# Altium footprint library National Semiconductor Footprints.PcbLib: 194 footprints (part 8 of 13)
Each footprint in its own frame and in the unit in brackets; x right, y up, seen from the top. Pads: shape width x height; smd on the part's side, far side on the other; paste and mask are expansions set on the pad; w line width, h text height; cw(c..) or ccw(c..) is an arc to the next point about the centre after c.
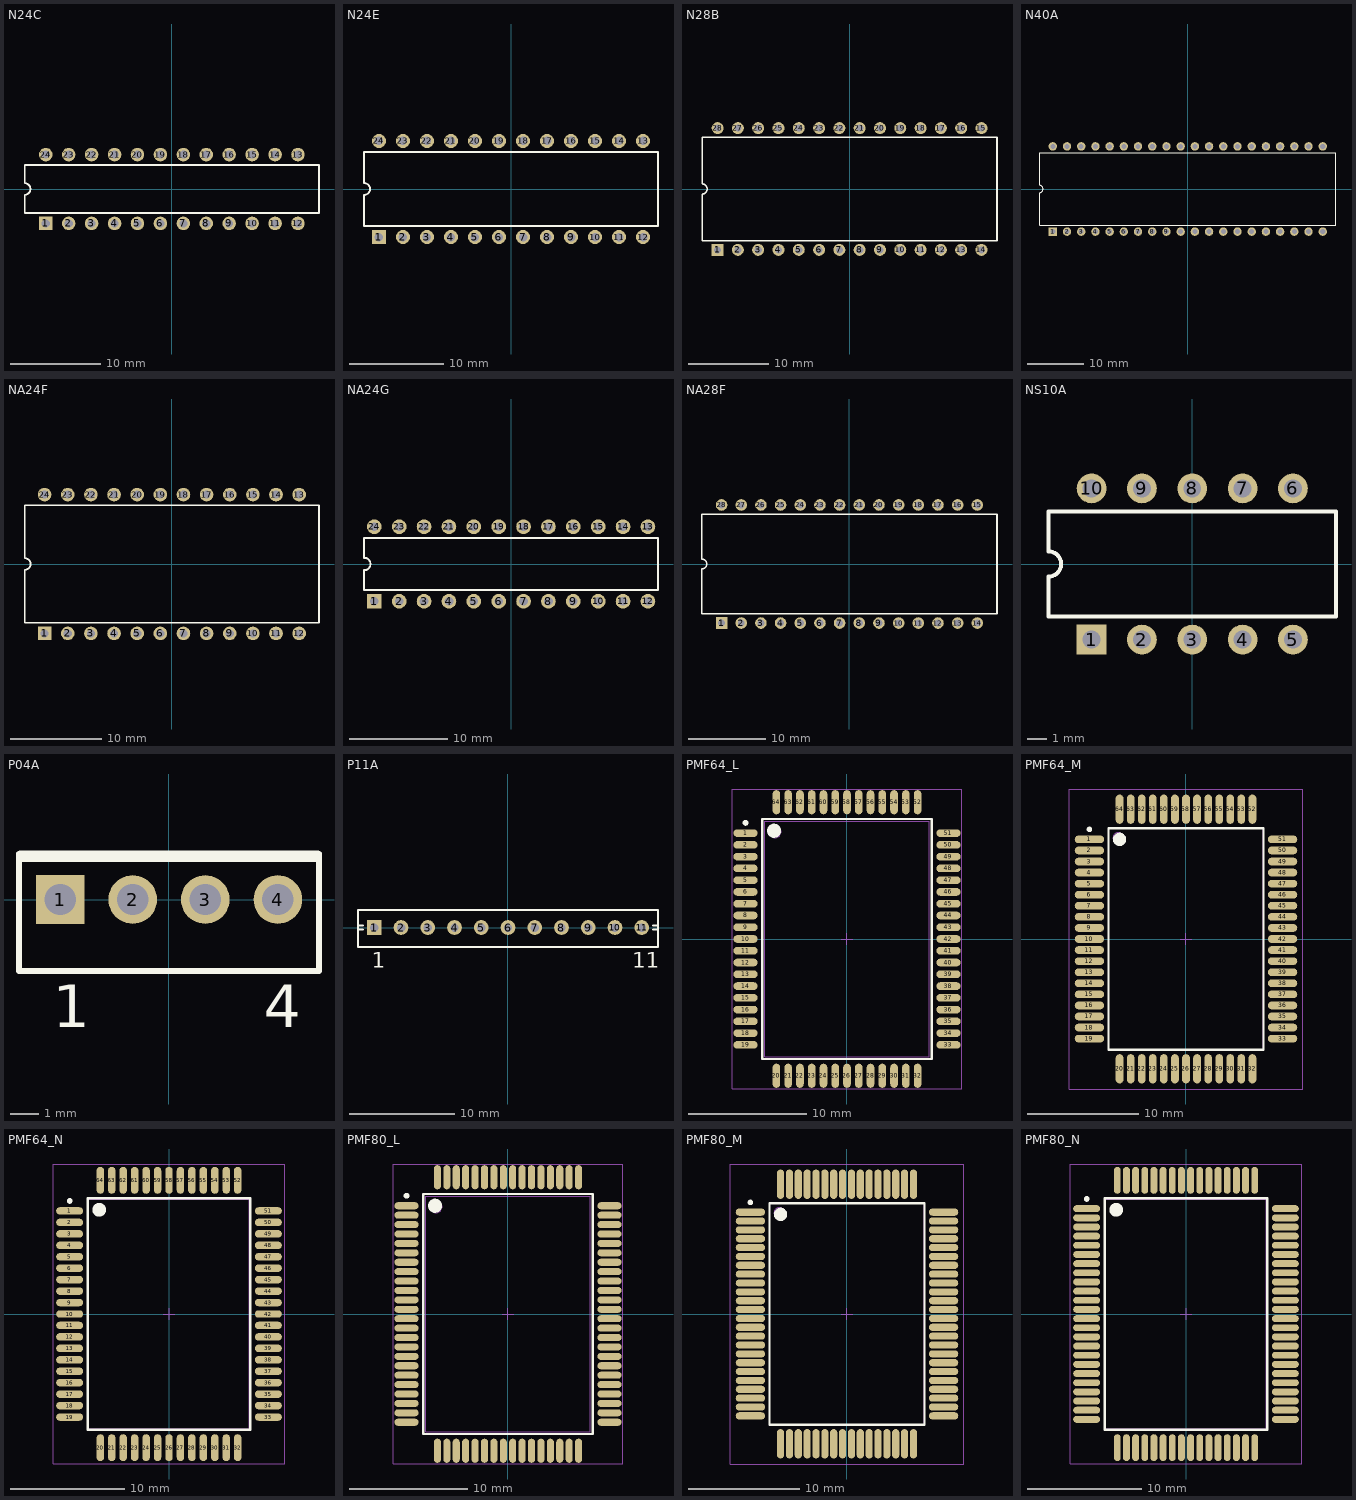
[diagram p7: the footprints below, top view; thin cyan lines are the x and y axes]

## N24C [mm] "DIP; 24 Leads; Row Spacing 7.62 mm; Pitch 2.54 mm"
height 5.08
pads (24):
  rect 1.5x1.5 hole 0.9: 1(-13.97,-3.81)
  round 1.5 hole 0.9: 2(-11.43,-3.81) 3(-8.89,-3.81) 4(-6.35,-3.81) 5(-3.81,-3.81) 6(-1.27,-3.81) 7(1.27,-3.81) 8(3.81,-3.81) 9(6.35,-3.81) 10(8.89,-3.81) 11(11.43,-3.81) 12(13.97,-3.81) 13(13.97,3.81) 14(11.43,3.81) 15(8.89,3.81) 16(6.35,3.81) 17(3.81,3.81) 18(1.27,3.81) 19(-1.27,3.81) 20(-3.81,3.81) 21(-6.35,3.81) 22(-8.89,3.81) 23(-11.43,3.81) 24(-13.97,3.81)
Top Overlay:
  lines w0.2: -16.3,-2.65 16.3,-2.65 16.3,2.65 -16.3,2.65 -16.3,0.635 cw(c-16.3,0) -16.3,-0.635 -16.3,-2.65

## N24E [mm] "DIP; 24 Leads; Row Spacing 10.16 mm; Pitch 2.54 mm"
height 5.08
pads (24):
  rect 1.5x1.5 hole 0.9: 1(-13.97,-5.08)
  round 1.5 hole 0.9: 2(-11.43,-5.08) 3(-8.89,-5.08) 4(-6.35,-5.08) 5(-3.81,-5.08) 6(-1.27,-5.08) 7(1.27,-5.08) 8(3.81,-5.08) 9(6.35,-5.08) 10(8.89,-5.08) 11(11.43,-5.08) 12(13.97,-5.08) 13(13.97,5.08) 14(11.43,5.08) 15(8.89,5.08) 16(6.35,5.08) 17(3.81,5.08) 18(1.27,5.08) 19(-1.27,5.08) 20(-3.81,5.08) 21(-6.35,5.08) 22(-8.89,5.08) 23(-11.43,5.08) 24(-13.97,5.08)
Top Overlay:
  lines w0.2: -15.55,-3.9 15.55,-3.9 15.55,3.9 -15.55,3.9 -15.55,0.635 cw(c-15.55,0) -15.55,-0.635 -15.55,-3.9

## N28B [mm] "DIP; 28 Leads; Row Spacing 15.24 mm; Pitch 2.54 mm"
height 5.34
pads (28):
  rect 1.5x1.5 hole 0.9: 1(-16.51,-7.62)
  round 1.5 hole 0.9: 2(-13.97,-7.62) 3(-11.43,-7.62) 4(-8.89,-7.62) 5(-6.35,-7.62) 6(-3.81,-7.62) 7(-1.27,-7.62) 8(1.27,-7.62) 9(3.81,-7.62) 10(6.35,-7.62) 11(8.89,-7.62) 12(11.43,-7.62) 13(13.97,-7.62) 14(16.51,-7.62) 15(16.51,7.62) 16(13.97,7.62) 17(11.43,7.62) 18(8.89,7.62) 19(6.35,7.62) 20(3.81,7.62) 21(1.27,7.62) 22(-1.27,7.62) 23(-3.81,7.62) 24(-6.35,7.62) 25(-8.89,7.62) 26(-11.43,7.62) 27(-13.97,7.62) 28(-16.51,7.62)
Top Overlay:
  lines w0.2: -18.45,-6.45 -18.45,-0.635 ccw(c-18.45,0) -18.45,0.635 -18.45,6.45 18.45,6.45 18.45,-6.45 -18.45,-6.45

## N40A [mm] "DIP; 40 Leads; Row Spacing 15.24 mm; Pitch 2.54 mm"
height 5.34
pads (40):
  rect 1.5x1.5 hole 0.9: 1(-24.13,-7.62)
  round 1.5 hole 0.9: 2(-21.59,-7.62) 3(-19.05,-7.62) 4(-16.51,-7.62) 5(-13.97,-7.62) 6(-11.43,-7.62) 7(-8.89,-7.62) 8(-6.35,-7.62) 9(-3.81,-7.62) 10(-1.27,-7.62) 11(1.27,-7.62) 12(3.81,-7.62) 13(6.35,-7.62) 14(8.89,-7.62) 15(11.43,-7.62) 16(13.97,-7.62) 17(16.51,-7.62) 18(19.05,-7.62) 19(21.59,-7.62) 20(24.13,-7.62) 21(24.13,7.62) 22(21.59,7.62) 23(19.05,7.62) 24(16.51,7.62) 25(13.97,7.62) 26(11.43,7.62) 27(8.89,7.62) 28(6.35,7.62) 29(3.81,7.62) 30(1.27,7.62) 31(-1.27,7.62) 32(-3.81,7.62) 33(-6.35,7.62) 34(-8.89,7.62) 35(-11.43,7.62) 36(-13.97,7.62) 37(-16.51,7.62) 38(-19.05,7.62) 39(-21.59,7.62) 40(-24.13,7.62)
Top Overlay:
  lines w0.2: -26.5,-6.45 26.5,-6.45 26.5,6.45 -26.5,6.45 -26.5,0.635 cw(c-26.5,0) -26.5,-0.635 -26.5,-6.45

## NA24F [mm] "DIP; 24 Leads; Row Spacing 15.24 mm; Pitch 2.54 mm"
height 7.24
pads (24):
  rect 1.5x1.5 hole 0.9: 1(-13.97,-7.62)
  round 1.5 hole 0.9: 2(-11.43,-7.62) 3(-8.89,-7.62) 4(-6.35,-7.62) 5(-3.81,-7.62) 6(-1.27,-7.62) 7(1.27,-7.62) 8(3.81,-7.62) 9(6.35,-7.62) 10(8.89,-7.62) 11(11.43,-7.62) 12(13.97,-7.62) 13(13.97,7.62) 14(11.43,7.62) 15(8.89,7.62) 16(6.35,7.62) 17(3.81,7.62) 18(1.27,7.62) 19(-1.27,7.62) 20(-3.81,7.62) 21(-6.35,7.62) 22(-8.89,7.62) 23(-11.43,7.62) 24(-13.97,7.62)
Top Overlay:
  lines w0.2: -16.15,-6.45 -16.15,-0.635 ccw(c-16.15,0) -16.15,0.635 -16.15,6.45 16.15,6.45 16.15,-6.45 -16.15,-6.45

## NA24G [mm] "DIP; 24 Leads; Row Spacing 7.62 mm; Pitch 2.54 mm"
height 4.58
pads (24):
  rect 1.5x1.5 hole 0.9: 1(-13.97,-3.81)
  round 1.5 hole 0.9: 2(-11.43,-3.81) 3(-8.89,-3.81) 4(-6.35,-3.81) 5(-3.81,-3.81) 6(-1.27,-3.81) 7(1.27,-3.81) 8(3.81,-3.81) 9(6.35,-3.81) 10(8.89,-3.81) 11(11.43,-3.81) 12(13.97,-3.81) 13(13.97,3.81) 14(11.43,3.81) 15(8.89,3.81) 16(6.35,3.81) 17(3.81,3.81) 18(1.27,3.81) 19(-1.27,3.81) 20(-3.81,3.81) 21(-6.35,3.81) 22(-8.89,3.81) 23(-11.43,3.81) 24(-13.97,3.81)
Top Overlay:
  lines w0.2: -15,-2.65 15,-2.65 15,2.65 -15,2.65 -15,0.635 cw(c-15,0) -15,-0.635 -15,-2.65

## NA28F [mm] "DIP; 28 Leads; Row Spacing 15.24 mm; Pitch 2.54 mm"
height 5.33
pads (28):
  rect 1.5x1.5 hole 0.9: 1(-16.51,-7.62)
  round 1.5 hole 0.9: 2(-13.97,-7.62) 3(-11.43,-7.62) 4(-8.89,-7.62) 5(-6.35,-7.62) 6(-3.81,-7.62) 7(-1.27,-7.62) 8(1.27,-7.62) 9(3.81,-7.62) 10(6.35,-7.62) 11(8.89,-7.62) 12(11.43,-7.62) 13(13.97,-7.62) 14(16.51,-7.62) 15(16.51,7.62) 16(13.97,7.62) 17(11.43,7.62) 18(8.89,7.62) 19(6.35,7.62) 20(3.81,7.62) 21(1.27,7.62) 22(-1.27,7.62) 23(-3.81,7.62) 24(-6.35,7.62) 25(-8.89,7.62) 26(-11.43,7.62) 27(-13.97,7.62) 28(-16.51,7.62)
Top Overlay:
  lines w0.2: -19.05,-6.45 19.05,-6.45 19.05,6.45 -19.05,6.45 -19.05,0.635 cw(c-19.05,0) -19.05,-0.635 -19.05,-6.45

## NS10A [mm] "DIP; 10 Leads; Row Spacing 7.62 mm; Pitch 2.54 mm"
height 5.08
pads (10):
  rect 1.5x1.5 hole 0.9: 1(-5.08,-3.81)
  round 1.5 hole 0.9: 2(-2.54,-3.81) 3(0,-3.81) 4(2.54,-3.81) 5(5.08,-3.81) 6(5.08,3.81) 7(2.54,3.81) 8(0,3.81) 9(-2.54,3.81) 10(-5.08,3.81)
Top Overlay:
  lines w0.2: -7.25,-2.65 -7.25,-0.635 ccw(c-7.25,0) -7.25,0.635 -7.25,2.65 7.25,2.65 7.25,-2.65 -7.25,-2.65

## P04A [mm] "TO, Thru-Hole, Vertical, Heatsink Mounted; 4 In-Line Leads; Pitch 2.54 mm"
height 20.6
pads (4):
  rect 1.7x1.7 hole 1.1: 1(-3.81,0)
  round 1.7 hole 1.1: 2(-1.27,0) 3(1.27,0) 4(3.81,0)
Top Overlay:
  rectangle: -5.25,1.311 5.25,1.711
  lines w0.2: -5.25,1.6 -5.25,-2.5 5.25,-2.5 5.25,1.6
  text "4" at 3.31,-4.475 h1.5
  text "1" at -4.06,-4.475 h1.5

## P11A [mm] "TO, Thru-Hole, Vertical, Heatsink Mounted; 11 In-Line Leads; Pitch 2.54 mm"
height 15
pads (11):
  rect 1.4x1.4 hole 0.8: 1(-12.7,0)
  round 1.4 hole 0.8: 2(-10.16,0) 3(-7.62,0) 4(-5.08,0) 5(-2.54,0) 6(0,0) 7(2.54,0) 8(5.08,0) 9(7.62,0) 10(10.16,0) 11(12.7,0)
Top Overlay:
  lines w0.2: -14.25,-0.191 -13.8,-0.191 ; -14.25,0.191 -13.8,0.191 ; 13.8,-0.191 14.25,-0.191 ; 13.8,0.191 14.25,0.191 ; -14.25,-1.85 14.25,-1.85 14.25,1.65 -14.25,1.65 -14.25,-1.85
  text "1" at -12.95,-3.825 h1.5
  text "11" at 11.825,-3.825 h1.5

## PMF64_L [mm] "64-Pin Quad Flat Pack Rectangular 1 mm Pitch, IPC High Density"
height 2.3
pads (64):
  oval 2.05x0.65 smd: 1(-8.625,9) 2(-8.625,8) 3(-8.625,7) 4(-8.625,6) 5(-8.625,5) 6(-8.625,4) 7(-8.625,3) 8(-8.625,2) 9(-8.625,1) 10(-8.625,0) 11(-8.625,-1) 12(-8.625,-2) 13(-8.625,-3) 14(-8.625,-4) 15(-8.625,-5) 16(-8.625,-6) 17(-8.625,-7) 18(-8.625,-8) 19(-8.625,-9) 33(8.625,-9) 34(8.625,-8) 35(8.625,-7) 36(8.625,-6) 37(8.625,-5) 38(8.625,-4) 39(8.625,-3) 40(8.625,-2) 41(8.625,-1) 42(8.625,0) 43(8.625,1) 44(8.625,2) 45(8.625,3) 46(8.625,4) 47(8.625,5) 48(8.625,6) 49(8.625,7) 50(8.625,8) 51(8.625,9)
  oval 0.65x2.05 smd: 20(-6,-11.625) 21(-5,-11.625) 22(-4,-11.625) 23(-3,-11.625) 24(-2,-11.625) 25(-1,-11.625) 26(0,-11.625) 27(1,-11.625) 28(2,-11.625) 29(3,-11.625) 30(4,-11.625) 31(5,-11.625) 32(6,-11.625) 52(6,11.625) 53(5,11.625) 54(4,11.625) 55(3,11.625) 56(2,11.625) 57(1,11.625) 58(0,11.625) 59(-1,11.625) 60(-2,11.625) 61(-3,11.625) 62(-4,11.625) 63(-5,11.625) 64(-6,11.625)
Top Overlay:
  circle w0.6: c-6.2,9.2 r0.3
  circle w0.25: c-8.625,9.875 r0.125
  lines w0.2: -7.2,-10.2 7.2,-10.2 7.2,10.2 -7.2,10.2 -7.2,-10.2
Mechanical 13:
  circle w0.1: c-6.1,9.1 r0.5
  lines w0.1: -7,-10 7,-10 7,10 -7,10 -7,-10
Mechanical 15:
  lines w0.1: -0.5,0 0.5,0 ; 0,-0.5 0,0.5 ; -9.75,-12.75 9.75,-12.75 9.75,12.75 -9.75,12.75 -9.75,-12.75
3D body: height 2.3, standoff 0, extent -7,-10 7,10

## PMF64_M [mm] "64-Pin Quad Flat Pack Rectangular 1 mm Pitch, IPC Low Density"
height 2.3
pads (64):
  oval 2.65x0.7 smd: 1(-8.725,9) 2(-8.725,8) 3(-8.725,7) 4(-8.725,6) 5(-8.725,5) 6(-8.725,4) 7(-8.725,3) 8(-8.725,2) 9(-8.725,1) 10(-8.725,0) 11(-8.725,-1) 12(-8.725,-2) 13(-8.725,-3) 14(-8.725,-4) 15(-8.725,-5) 16(-8.725,-6) 17(-8.725,-7) 18(-8.725,-8) 19(-8.725,-9) 33(8.725,-9) 34(8.725,-8) 35(8.725,-7) 36(8.725,-6) 37(8.725,-5) 38(8.725,-4) 39(8.725,-3) 40(8.725,-2) 41(8.725,-1) 42(8.725,0) 43(8.725,1) 44(8.725,2) 45(8.725,3) 46(8.725,4) 47(8.725,5) 48(8.725,6) 49(8.725,7) 50(8.725,8) 51(8.725,9)
  oval 0.7x2.65 smd: 20(-6,-11.725) 21(-5,-11.725) 22(-4,-11.725) 23(-3,-11.725) 24(-2,-11.725) 25(-1,-11.725) 26(0,-11.725) 27(1,-11.725) 28(2,-11.725) 29(3,-11.725) 30(4,-11.725) 31(5,-11.725) 32(6,-11.725) 52(6,11.725) 53(5,11.725) 54(4,11.725) 55(3,11.725) 56(2,11.725) 57(1,11.725) 58(0,11.725) 59(-1,11.725) 60(-2,11.725) 61(-3,11.725) 62(-4,11.725) 63(-5,11.725) 64(-6,11.725)
Top Overlay:
  circle w0.25: c-8.725,9.9 r0.125
  circle w0.6: c-6,9 r0.3
  lines w0.2: -7,-10 -7,10 7,10 7,-10 -7,-10
Mechanical 13:
  circle w0.1: c-6.1,9.1 r0.5
  lines w0.1: -7,-10 -7,10 7,10 7,-10 -7,-10
Mechanical 15:
  lines w0.1: -0.5,0 0.5,0 ; 0,-0.5 0,0.5 ; -10.55,-13.55 -10.55,13.55 10.55,13.55 10.55,-13.55 -10.55,-13.55
3D body: height 2.3, standoff 0, extent -7,-10 7,10

## PMF64_N [mm] "64-Pin Quad Flat Pack Rectangular 1 mm Pitch, IPC Medium Density"
height 2.3
pads (64):
  oval 2.35x0.65 smd: 1(-8.675,9) 2(-8.675,8) 3(-8.675,7) 4(-8.675,6) 5(-8.675,5) 6(-8.675,4) 7(-8.675,3) 8(-8.675,2) 9(-8.675,1) 10(-8.675,0) 11(-8.675,-1) 12(-8.675,-2) 13(-8.675,-3) 14(-8.675,-4) 15(-8.675,-5) 16(-8.675,-6) 17(-8.675,-7) 18(-8.675,-8) 19(-8.675,-9) 33(8.675,-9) 34(8.675,-8) 35(8.675,-7) 36(8.675,-6) 37(8.675,-5) 38(8.675,-4) 39(8.675,-3) 40(8.675,-2) 41(8.675,-1) 42(8.675,0) 43(8.675,1) 44(8.675,2) 45(8.675,3) 46(8.675,4) 47(8.675,5) 48(8.675,6) 49(8.675,7) 50(8.675,8) 51(8.675,9)
  oval 0.65x2.35 smd: 20(-6,-11.675) 21(-5,-11.675) 22(-4,-11.675) 23(-3,-11.675) 24(-2,-11.675) 25(-1,-11.675) 26(0,-11.675) 27(1,-11.675) 28(2,-11.675) 29(3,-11.675) 30(4,-11.675) 31(5,-11.675) 32(6,-11.675) 52(6,11.675) 53(5,11.675) 54(4,11.675) 55(3,11.675) 56(2,11.675) 57(1,11.675) 58(0,11.675) 59(-1,11.675) 60(-2,11.675) 61(-3,11.675) 62(-4,11.675) 63(-5,11.675) 64(-6,11.675)
Top Overlay:
  circle w0.6: c-6.1,9.1 r0.3
  circle w0.25: c-8.675,9.875 r0.125
  lines w0.2: -7.1,-10.1 7.1,-10.1 7.1,10.1 -7.1,10.1 -7.1,-10.1
Mechanical 13:
  circle w0.1: c-6.1,9.1 r0.5
  lines w0.1: -7,-10 7,-10 7,10 -7,10 -7,-10
Mechanical 15:
  lines w0.1: -0.5,0 0.5,0 ; 0,-0.5 0,0.5 ; -10.1,-13.1 10.1,-13.1 10.1,13.1 -10.1,13.1 -10.1,-13.1
3D body: height 2.3, standoff 0, extent -7,-10 7,10

## PMF80_L [mm] "80-Pin Quad Flat Pack Rectangular 0.8 mm Pitch, IPC High Density"
height 2.3
pads (80):
  oval 2.05x0.6 smd: 1(-8.625,9.2) 2(-8.625,8.4) 3(-8.625,7.6) 4(-8.625,6.8) 5(-8.625,6) 6(-8.625,5.2) 7(-8.625,4.4) 8(-8.625,3.6) 9(-8.625,2.8) 10(-8.625,2) 11(-8.625,1.2) 12(-8.625,0.4) 13(-8.625,-0.4) 14(-8.625,-1.2) 15(-8.625,-2) 16(-8.625,-2.8) 17(-8.625,-3.6) 18(-8.625,-4.4) 19(-8.625,-5.2) 20(-8.625,-6) 21(-8.625,-6.8) 22(-8.625,-7.6) 23(-8.625,-8.4) 24(-8.625,-9.2) 41(8.625,-9.2) 42(8.625,-8.4) 43(8.625,-7.6) 44(8.625,-6.8) 45(8.625,-6) 46(8.625,-5.2) 47(8.625,-4.4) 48(8.625,-3.6) 49(8.625,-2.8) 50(8.625,-2) 51(8.625,-1.2) 52(8.625,-0.4) 53(8.625,0.4) 54(8.625,1.2) 55(8.625,2) 56(8.625,2.8) 57(8.625,3.6) 58(8.625,4.4) 59(8.625,5.2) 60(8.625,6) 61(8.625,6.8) 62(8.625,7.6) 63(8.625,8.4) 64(8.625,9.2)
  oval 0.6x2.05 smd: 25(-6,-11.625) 26(-5.2,-11.625) 27(-4.4,-11.625) 28(-3.6,-11.625) 29(-2.8,-11.625) 30(-2,-11.625) 31(-1.2,-11.625) 32(-0.4,-11.625) 33(0.4,-11.625) 34(1.2,-11.625) 35(2,-11.625) 36(2.8,-11.625) 37(3.6,-11.625) 38(4.4,-11.625) 39(5.2,-11.625) 40(6,-11.625) 65(6,11.625) 66(5.2,11.625) 67(4.4,11.625) 68(3.6,11.625) 69(2.8,11.625) 70(2,11.625) 71(1.2,11.625) 72(0.4,11.625) 73(-0.4,11.625) 74(-1.2,11.625) 75(-2,11.625) 76(-2.8,11.625) 77(-3.6,11.625) 78(-4.4,11.625) 79(-5.2,11.625) 80(-6,11.625)
Top Overlay:
  circle w0.6: c-6.2,9.2 r0.3
  circle w0.25: c-8.625,10.05 r0.125
  lines w0.2: -7.2,-10.2 7.2,-10.2 7.2,10.2 -7.2,10.2 -7.2,-10.2
Mechanical 13:
  circle w0.1: c-6.1,9.1 r0.5
  lines w0.1: -7,-10 7,-10 7,10 -7,10 -7,-10
Mechanical 15:
  lines w0.1: -0.5,0 0.5,0 ; 0,-0.5 0,0.5 ; -9.75,-12.75 9.75,-12.75 9.75,12.75 -9.75,12.75 -9.75,-12.75
3D body: height 2.3, standoff 0, extent -7,-10 7,10

## PMF80_M [mm] "80-Pin Quad Flat Pack Rectangular 0.8 mm Pitch, IPC Low Density"
height 2.3
pads (80):
  oval 2.65x0.65 smd: 1(-8.725,9.2) 2(-8.725,8.4) 3(-8.725,7.6) 4(-8.725,6.8) 5(-8.725,6) 6(-8.725,5.2) 7(-8.725,4.4) 8(-8.725,3.6) 9(-8.725,2.8) 10(-8.725,2) 11(-8.725,1.2) 12(-8.725,0.4) 13(-8.725,-0.4) 14(-8.725,-1.2) 15(-8.725,-2) 16(-8.725,-2.8) 17(-8.725,-3.6) 18(-8.725,-4.4) 19(-8.725,-5.2) 20(-8.725,-6) 21(-8.725,-6.8) 22(-8.725,-7.6) 23(-8.725,-8.4) 24(-8.725,-9.2) 41(8.725,-9.2) 42(8.725,-8.4) 43(8.725,-7.6) 44(8.725,-6.8) 45(8.725,-6) 46(8.725,-5.2) 47(8.725,-4.4) 48(8.725,-3.6) 49(8.725,-2.8) 50(8.725,-2) 51(8.725,-1.2) 52(8.725,-0.4) 53(8.725,0.4) 54(8.725,1.2) 55(8.725,2) 56(8.725,2.8) 57(8.725,3.6) 58(8.725,4.4) 59(8.725,5.2) 60(8.725,6) 61(8.725,6.8) 62(8.725,7.6) 63(8.725,8.4) 64(8.725,9.2)
  oval 0.65x2.65 smd: 25(-6,-11.725) 26(-5.2,-11.725) 27(-4.4,-11.725) 28(-3.6,-11.725) 29(-2.8,-11.725) 30(-2,-11.725) 31(-1.2,-11.725) 32(-0.4,-11.725) 33(0.4,-11.725) 34(1.2,-11.725) 35(2,-11.725) 36(2.8,-11.725) 37(3.6,-11.725) 38(4.4,-11.725) 39(5.2,-11.725) 40(6,-11.725) 65(6,11.725) 66(5.2,11.725) 67(4.4,11.725) 68(3.6,11.725) 69(2.8,11.725) 70(2,11.725) 71(1.2,11.725) 72(0.4,11.725) 73(-0.4,11.725) 74(-1.2,11.725) 75(-2,11.725) 76(-2.8,11.725) 77(-3.6,11.725) 78(-4.4,11.725) 79(-5.2,11.725) 80(-6,11.725)
Top Overlay:
  circle w0.6: c-6,9 r0.3
  circle w0.25: c-8.725,10.075 r0.125
  lines w0.2: -7,-10 7,-10 7,10 -7,10 -7,-10
Mechanical 13:
  circle w0.1: c-6.1,9.1 r0.5
  lines w0.1: -7,-10 7,-10 7,10 -7,10 -7,-10
Mechanical 15:
  lines w0.1: -0.5,0 0.5,0 ; 0,-0.5 0,0.5 ; -10.55,-13.55 10.55,-13.55 10.55,13.55 -10.55,13.55 -10.55,-13.55
3D body: height 2.3, standoff 0, extent -7,-10 7,10

## PMF80_N [mm] "80-Pin Quad Flat Pack Rectangular 0.8 mm Pitch, IPC Medium Density"
height 2.3
pads (80):
  oval 2.35x0.6 smd: 1(-8.675,9.2) 2(-8.675,8.4) 3(-8.675,7.6) 4(-8.675,6.8) 5(-8.675,6) 6(-8.675,5.2) 7(-8.675,4.4) 8(-8.675,3.6) 9(-8.675,2.8) 10(-8.675,2) 11(-8.675,1.2) 12(-8.675,0.4) 13(-8.675,-0.4) 14(-8.675,-1.2) 15(-8.675,-2) 16(-8.675,-2.8) 17(-8.675,-3.6) 18(-8.675,-4.4) 19(-8.675,-5.2) 20(-8.675,-6) 21(-8.675,-6.8) 22(-8.675,-7.6) 23(-8.675,-8.4) 24(-8.675,-9.2) 41(8.675,-9.2) 42(8.675,-8.4) 43(8.675,-7.6) 44(8.675,-6.8) 45(8.675,-6) 46(8.675,-5.2) 47(8.675,-4.4) 48(8.675,-3.6) 49(8.675,-2.8) 50(8.675,-2) 51(8.675,-1.2) 52(8.675,-0.4) 53(8.675,0.4) 54(8.675,1.2) 55(8.675,2) 56(8.675,2.8) 57(8.675,3.6) 58(8.675,4.4) 59(8.675,5.2) 60(8.675,6) 61(8.675,6.8) 62(8.675,7.6) 63(8.675,8.4) 64(8.675,9.2)
  oval 0.6x2.35 smd: 25(-6,-11.675) 26(-5.2,-11.675) 27(-4.4,-11.675) 28(-3.6,-11.675) 29(-2.8,-11.675) 30(-2,-11.675) 31(-1.2,-11.675) 32(-0.4,-11.675) 33(0.4,-11.675) 34(1.2,-11.675) 35(2,-11.675) 36(2.8,-11.675) 37(3.6,-11.675) 38(4.4,-11.675) 39(5.2,-11.675) 40(6,-11.675) 65(6,11.675) 66(5.2,11.675) 67(4.4,11.675) 68(3.6,11.675) 69(2.8,11.675) 70(2,11.675) 71(1.2,11.675) 72(0.4,11.675) 73(-0.4,11.675) 74(-1.2,11.675) 75(-2,11.675) 76(-2.8,11.675) 77(-3.6,11.675) 78(-4.4,11.675) 79(-5.2,11.675) 80(-6,11.675)
Top Overlay:
  circle w0.6: c-6.1,9.1 r0.3
  circle w0.25: c-8.675,10.05 r0.125
  lines w0.2: -7.1,-10.1 7.1,-10.1 7.1,10.1 -7.1,10.1 -7.1,-10.1
Mechanical 13:
  circle w0.1: c-6.1,9.1 r0.5
  lines w0.1: -7,-10 7,-10 7,10 -7,10 -7,-10
Mechanical 15:
  lines w0.1: -0.5,0 0.5,0 ; 0,-0.5 0,0.5 ; -10.1,-13.1 10.1,-13.1 10.1,13.1 -10.1,13.1 -10.1,-13.1
3D body: height 2.3, standoff 0, extent -7,-10 7,10